# EAGLE library part 6EDL7141 (library 6EDL7141)
3 phase smart gate driver, PG-VQFN-48-78 Source: Datasheet <https://www.infineon.com/dgdl/Infineon-6EDL7141-DataSheet-v01_00-EN.pdf?fileId=5546d46279cccfdb0179f4c1d3bf0756>
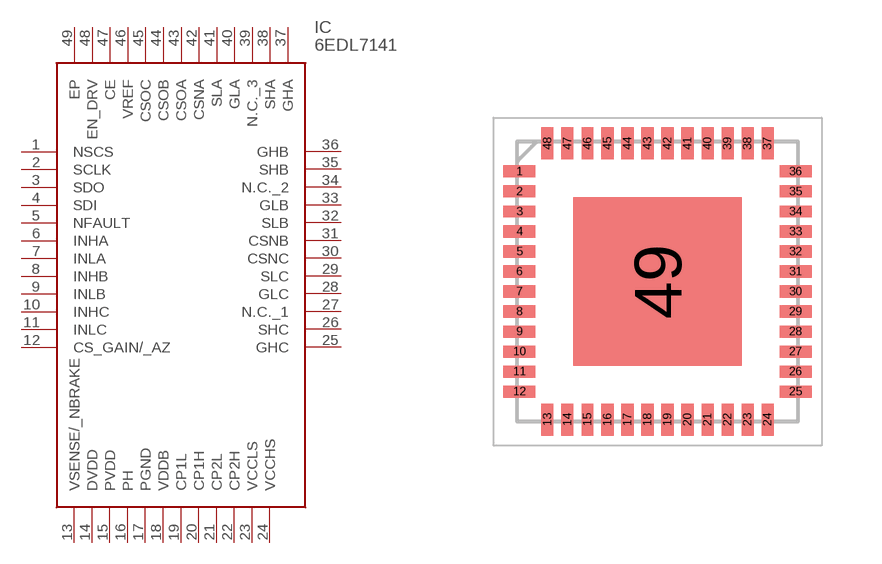
[diagram p0: symbol with the pads of QFN50P700X700X90-49N; footprint QFN50P700X700X90-49N]

Designator prefix IC

## 6EDL7141 (Description: 3 phase smart gate driver, PG-VQFN-48-78; Height: 0.9mm; Manufacturer_Name: Infineon; Manufacturer_Part_Number: 6EDL7141)  [QFN50P700X700X90-49N]
1  NSCS
2  SCLK
3  SDO
4  SDI
5  NFAULT
6  INHA
7  INLA
8  INHB
9  INLB
10  INHC
11  INLC
12  CS_GAIN/_AZ
13  VSENSE/_NBRAKE
14  DVDD
15  PVDD
16  PH
17  PGND
18  VDDB
19  CP1L
20  CP1H
21  CP2L
22  CP2H
23  VCCLS
24  VCCHS
25  GHC
26  SHC
27  N.C._1
28  GLC
29  SLC
30  CSNC
31  CSNB
32  SLB
33  GLB
34  N.C._2
35  SHB
36  GHB
37  GHA
38  SHA
39  N.C._3
40  GLA
41  SLA
42  CSNA
43  CSOA
44  CSOB
45  CSOC
46  VREF
47  CE
48  EN_DRV
49  EP

## Footprint QFN50P700X700X90-49N (pad centres in mm)
PG-VQFN-48-73_
smd 0.8 x 0.3: 1 -3.45,2.75; 2 -3.45,2.25; 3 -3.45,1.75; 4 -3.45,1.25; 5 -3.45,0.75; 6 -3.45,0.25; 7 -3.45,-0.25; 8 -3.45,-0.75; 9 -3.45,-1.25; 10 -3.45,-1.75; 11 -3.45,-2.25; 12 -3.45,-2.75; 25 3.45,-2.75; 26 3.45,-2.25; 27 3.45,-1.75; 28 3.45,-1.25; 29 3.45,-0.75; 30 3.45,-0.25; 31 3.45,0.25; 32 3.45,0.75; 33 3.45,1.25; 34 3.45,1.75; 35 3.45,2.25; 36 3.45,2.75
smd 0.3 x 0.8: 13 -2.75,-3.45; 14 -2.25,-3.45; 15 -1.75,-3.45; 16 -1.25,-3.45; 17 -0.75,-3.45; 18 -0.25,-3.45; 19 0.25,-3.45; 20 0.75,-3.45; 21 1.25,-3.45; 22 1.75,-3.45; 23 2.25,-3.45; 24 2.75,-3.45; 37 2.75,3.45; 38 2.25,3.45; 39 1.75,3.45; 40 1.25,3.45; 41 0.75,3.45; 42 0.25,3.45; 43 -0.25,3.45; 44 -0.75,3.45; 45 -1.25,3.45; 46 -1.75,3.45; 47 -2.25,3.45; 48 -2.75,3.45
smd 4.2 x 4.2: 49 0,0